# EAGLE library part RELAY_4PDT (library fcch_eagle_parts_metal_mill)
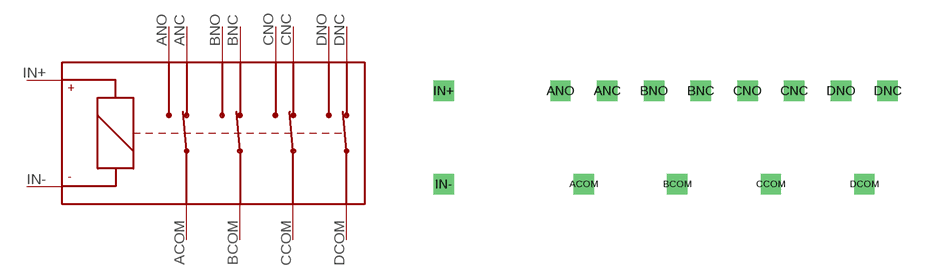
[diagram p4: symbol with the pads of RELAY_4PDT; footprint RELAY_4PDT]

Designator prefix -

## RELAY_4PDT  [RELAY_4PDT]
ACOM  ACOM
ANC  ANC
ANO  ANO
BCOM  BCOM
BNC  BNC
BNO  BNO
CCOM  CCOM
CNC  CNC
CNO  CNO
DCOM  DCOM
DNC  DNC
DNO  DNO
IN+  COIL+
IN-  COIL-

## Footprint RELAY_4PDT (pad centres in mm)
drill 0.6 square: ACOM -3.81,-3.81; ANC -2.54,1.27; ANO -5.08,1.27; BCOM 1.27,-3.81; BNC 2.54,1.27; BNO 0,1.27; CCOM 6.35,-3.81; CNC 7.62,1.27; CNO 5.08,1.27; DCOM 11.43,-3.81; DNC 12.7,1.27; DNO 10.16,1.27; IN+ -11.43,1.27; IN- -11.43,-3.81